# EAGLE library part NODE_MCU_V3 (library ESP12E_DEVKIT)
ESP12E DEVKIT BOARD
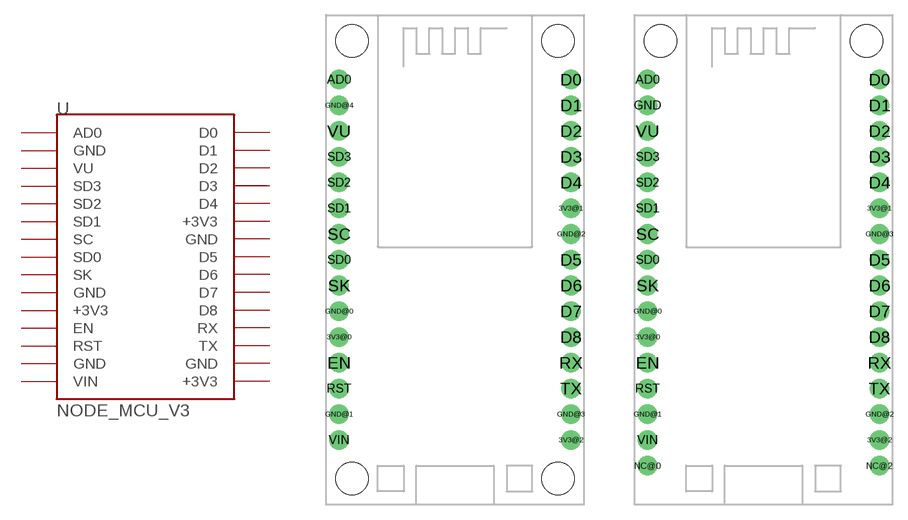
[diagram p1: symbol with the pads of NODE_MCU_V3; footprints NODE_MCU_V3, NODE_MCU_V3_DIL]

Designator prefix U

## NODE_MCU_V3  [NODE_MCU_V3]
3V3@0  +3V3
3V3@1  +3V3
3V3@2  +3V3
AD0  AD0
D0  D0
D1  D1
D2  D2
D3  D3
D4  D4
D5  D5
D6  D6
D7  D7
D8  D8
EN  EN
GND@0  GND
GND@1  GND
GND@2  GND
GND@3  GND
GND@4  GND  pwr
RST  RST
RX  RX
SC  SC
SD0  SD0
SD1  SD1
SD2  SD2
SD3  SD3
SK  SK
TX  TX
VIN  VIN
VU  VU  pas

## NODE_MCU_V3DIL  [NODE_MCU_V3_DIL]
3V3@0  +3V3
3V3@1  +3V3
3V3@2  +3V3
AD0  AD0
D0  D0
D1  D1
D2  D2
D3  D3
D4  D4
D5  D5
D6  D6
D7  D7
D8  D8
EN  EN
GND  GND  pwr
GND@0  GND
GND@1  GND
GND@2  GND
GND@3  GND
RST  RST
RX  RX
SC  SC
SD0  SD0
SD1  SD1
SD2  SD2
SD3  SD3
SK  SK
TX  TX
VIN  VIN
VU  VU  pas

## NODE_MCU_V3DIL_WILD  [NODE_MCU_V3_WILD_DIL]
Pads as for NODE_MCU_V3_DIL

## Footprint NODE_MCU_V3 (pad centres in mm)
ESP12E_DEVKIT
drill 0.8 pad 1.93: 3V3@0 -11.43,-7.62; 3V3@1 11.43,5.08; 3V3@2 11.43,-17.78; AD0 -11.43,17.78; D0 11.43,17.78; D1 11.43,15.24; D2 11.43,12.7; D3 11.43,10.16; D4 11.43,7.62; D5 11.43,0; D6 11.43,-2.54; D7 11.43,-5.08; D8 11.43,-7.62; EN -11.43,-10.16; GND@0 -11.43,-5.08; GND@1 -11.43,-15.24; GND@2 11.43,2.54; GND@3 11.43,-15.24; GND@4 -11.43,15.24; RST -11.43,-12.7; RX 11.43,-10.16; SC -11.43,2.54; SD0 -11.43,0; SD1 -11.43,5.08; SD2 -11.43,7.62; SD3 -11.43,10.16; SK -11.43,-2.54; TX 11.43,-12.7; VIN -11.43,-17.78; VU -11.43,12.7
hole 3.2 at -10.16,21.59
hole 3.2 at 10.16,21.59
hole 3.2 at 10.16,-21.59
hole 3.2 at -10.16,-21.59

## Footprint NODE_MCU_V3_DIL (pad centres in mm)
ESP12E_DEVKIT
drill 0.8 pad 1.93: 3V3@0 -11.43,-7.62; 3V3@1 11.43,5.08; 3V3@2 11.43,-17.78; AD0 -11.43,17.78; D0 11.43,17.78; D1 11.43,15.24; D2 11.43,12.7; D3 11.43,10.16; D4 11.43,7.62; D5 11.43,0; D6 11.43,-2.54; D7 11.43,-5.08; D8 11.43,-7.62; EN -11.43,-10.16; GND -11.43,15.24; GND@0 -11.43,-5.08; GND@1 -11.43,-15.24; GND@2 11.43,-15.24; GND@3 11.43,2.54; NC@0 -11.43,-20.32; NC@2 11.43,-20.32; RST -11.43,-12.7; RX 11.43,-10.16; SC -11.43,2.54; SD0 -11.43,0; SD1 -11.43,5.08; SD2 -11.43,7.62; SD3 -11.43,10.16; SK -11.43,-2.54; TX 11.43,-12.7; VIN -11.43,-17.78; VU -11.43,12.7
hole 3.2 at -10.16,21.59
hole 3.2 at 10.16,21.59

## Footprint NODE_MCU_V3_WILD_DIL (pad centres in mm)
ESP12E_DEVKIT
drill 0.8 pad 1.93: 3V3@0 -13.97,-11.43; 3V3@1 13.97,1.27; 3V3@2 13.97,-21.59; AD0 -13.97,13.97; D0 13.97,13.97; D1 13.97,11.43; D2 13.97,8.89; D3 13.97,6.35; D4 13.97,3.81; D5 13.97,-3.81; D6 13.97,-6.35; D7 13.97,-8.89; D8 13.97,-11.43; EN -13.97,-13.97; GND -13.97,11.43; GND@0 -13.97,-8.89; GND@1 -13.97,-19.05; GND@2 13.97,-19.05; GND@3 13.97,-1.27; NC@0 -13.97,-24.13; NC@2 13.97,-24.13; RST -13.97,-16.51; RX 13.97,-13.97; SC -13.97,-1.27; SD0 -13.97,-3.81; SD1 -13.97,1.27; SD2 -13.97,3.81; SD3 -13.97,6.35; SK -13.97,-6.35; TX 13.97,-16.51; VIN -13.97,-21.59; VU -13.97,8.89
hole 3.2 at -12.7,21.59
hole 3.2 at 12.7,21.59
hole 3.2 at -12.7,-30.48
hole 3.2 at 12.7,-30.48